# Altium schematic symbol library U4.SchLib: 1 symbol
Pins are listed as number, name and electrical type; pins without a type are passive.

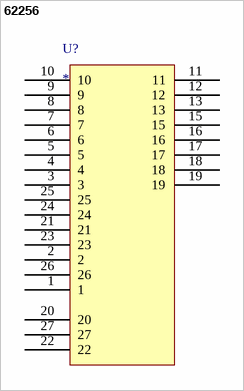
[diagram p0: symbol 62256]

## 62256
designator U?
footprint SOJ127P870X356-26M (SOJ, 26-Leads, Body 13.00x8.66mm, Pitch 1.27mm, IPC Low Density)
pins: 1, 2, 3, 4, 5, 6, 7, 8, 9, 10, 11, 12, 13, 15, 16, 17, 18, 19, 20, 21, 22, 23, 24, 25, 26, 27